# Altium schematic symbol library HEADER_2x2_ALT.SchLib: 1 symbol
Pins are listed as number, name and electrical type; pins without a type are passive.

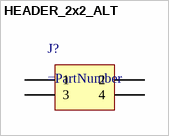
[diagram p0: symbol HEADER_2x2_ALT]

## HEADER_2x2_ALT
designator J?
pins: 1, 2, 3, 4